# EAGLE library part IDE44 (library conn)
44 pin IDE connector.
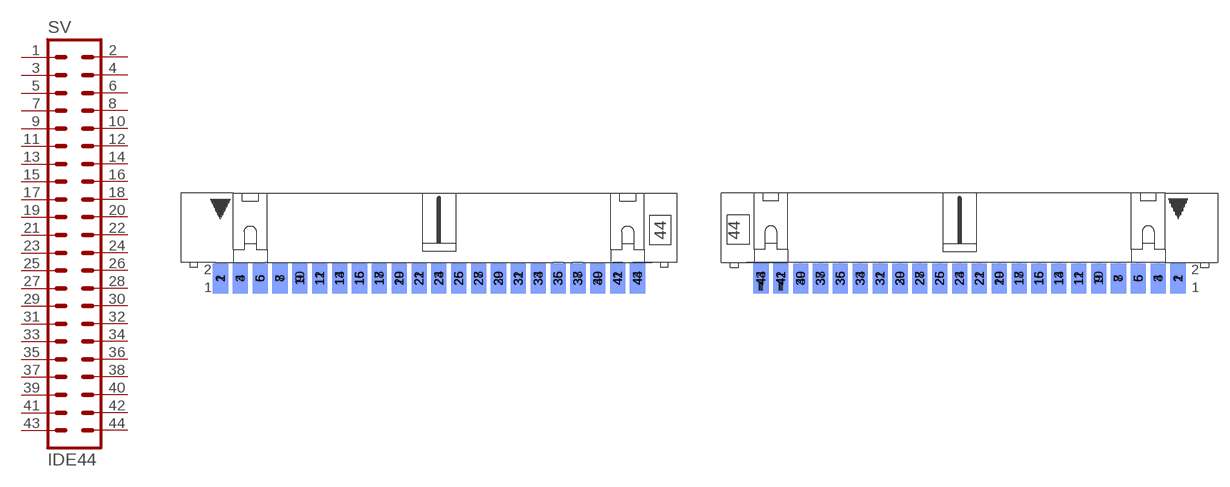
[diagram p1: symbol with the pads of ML44SMD; footprints ML44SMD, ML44SMDF]

Designator prefix SV

## IDE44  [ML44SMD]
1  !RESET!  pas
2  GND  pas
3  D7  pas
4  D8  pas
5  D6  pas
6  D9  pas
7  D5  pas
8  D10  pas
9  D4  pas
10  D11  pas
11  D3  pas
12  D12  pas
13  D2  pas
14  D13  pas
15  D1  pas
16  D14  pas
17  D0  pas
18  D15  pas
19  GND  pas
20  KEY  pas
21  DMARQ  pas
22  GND  pas
23  !IOW!  pas
24  GND  pas
25  !IOR!  pas
26  GND  pas
27  IORDY  pas
28  CSEL  pas
29  !DMACK!  pas
30  GND  pas
31  INTRQ  pas
32  !IOCS16!  pas
33  A1  pas
34  DIAG  pas
35  A0  pas
36  A2  pas
37  !CS0!  pas
38  !CS1!  pas
39  !ACTIVE!  pas
40  GND  pas
41  VCC  pas
42  VCC  pas
43  GND  pas
44  !TYPE!  pas

## IDE44F  [ML44SMDF]
Pads as for ML44SMD

## IDE44LOWPITCH  [PINHEAD2X22]
Pads as for ML44SMD

## IDE44LOWPITCHF  [PINHEAD2X22F]
Pads as for ML44SMD

## Footprint ML44SMD (pad centres in mm)
smd 1.93 x 3.81: 1 -27.94,0; 3 -25.4,0; 5 -22.86,0; 7 -20.32,0; 9 -17.78,0; 11 -15.24,0; 13 -12.7,0; 15 -10.16,0; 17 -7.62,0; 19 -5.08,0; 21 -2.54,0; 23 0,0; 25 2.54,0; 27 5.08,0; 29 7.62,0; 31 10.16,0; 33 12.7,0; 35 15.24,0; 37 17.78,0; 39 20.32,0; 41 22.86,0; 43 25.4,0
smd 1.93 x 3.81 bottom: 2 -27.94,0; 4 -25.4,0; 6 -22.86,0; 8 -20.32,0; 10 -17.78,0; 12 -15.24,0; 14 -12.7,0; 16 -10.16,0; 18 -7.62,0; 20 -5.08,0; 22 -2.54,0; 24 0,0; 26 2.54,0; 28 5.08,0; 30 7.62,0; 32 10.16,0; 34 12.7,0; 36 15.24,0; 38 17.78,0; 40 20.32,0; 42 22.86,0; 44 25.4,0

## Footprint ML44SMDF (pad centres in mm)
smd 1.93 x 3.81: 1 27.94,0; 3 25.4,0; 5 22.86,0; 7 20.32,0; 9 17.78,0; 11 15.24,0; 13 12.7,0; 15 10.16,0; 17 7.62,0; 19 5.08,0; 21 2.54,0; 23 0,0; 25 -2.54,0; 27 -5.08,0; 29 -7.62,0; 31 -10.16,0; 33 -12.7,0; 35 -15.24,0; 37 -17.78,0; 39 -20.32,0; 41 -22.86,0; 43 -25.4,0
smd 1.93 x 3.81 bottom: 2 27.94,0; 4 25.4,0; 6 22.86,0; 8 20.32,0; 10 17.78,0; 12 15.24,0; 14 12.7,0; 16 10.16,0; 18 7.62,0; 20 5.08,0; 22 2.54,0; 24 0,0; 26 -2.54,0; 28 -5.08,0; 30 -7.62,0; 32 -10.16,0; 34 -12.7,0; 36 -15.24,0; 38 -17.78,0; 40 -20.32,0; 42 -22.86,0; 44 -25.4,0

## Footprint PINHEAD2X22 (pad centres in mm)
smd 1.067 x 2.184: 1 -21,0; 3 -19,0; 5 -17,0; 7 -15,0; 9 -13,0; 11 -11,0; 13 -9,0; 15 -7,0; 17 -5,0; 19 -3,0; 21 -1,0; 23 1,0; 25 3,0; 27 5,0; 29 7,0; 31 9,0; 33 11,0; 35 13,0; 37 15,0; 39 17,0; 41 19,0; 43 21,0
smd 1.067 x 2.184 bottom: 2 -21,0; 4 -19,0; 6 -17,0; 8 -15,0; 10 -13,0; 12 -11,0; 14 -9,0; 16 -7,0; 18 -5,0; 20 -3,0; 22 -1,0; 24 1,0; 26 3,0; 28 5,0; 30 7,0; 32 9,0; 34 11,0; 36 13,0; 38 15,0; 40 17,0; 42 19,0; 44 21,0

## Footprint PINHEAD2X22F (pad centres in mm)
smd 1.067 x 2.184: 1 21,0; 3 19,0; 5 17,0; 7 15,0; 9 13,0; 11 11,0; 13 9,0; 15 7,0; 17 5,0; 19 3,0; 21 1,0; 23 -1,0; 25 -3,0; 27 -5,0; 29 -7,0; 31 -9,0; 33 -11,0; 35 -13,0; 37 -15,0; 39 -17,0; 41 -19,0; 43 -21,0
smd 1.067 x 2.184 bottom: 2 21,0; 4 19,0; 6 17,0; 8 15,0; 10 13,0; 12 11,0; 14 9,0; 16 7,0; 18 5,0; 20 3,0; 22 1,0; 24 -1,0; 26 -3,0; 28 -5,0; 30 -7,0; 32 -9,0; 34 -11,0; 36 -13,0; 38 -15,0; 40 -17,0; 42 -19,0; 44 -21,0